# Altium footprint library PCBLIB.PcbLib: 1 footprints
Each footprint in its own frame and in the unit in brackets; x right, y up, seen from the top. Pads: shape width x height; smd on the part's side, far side on the other; paste and mask are expansions set on the pad; w line width, h text height; cw(c..) or ccw(c..) is an arc to the next point about the centre after c.
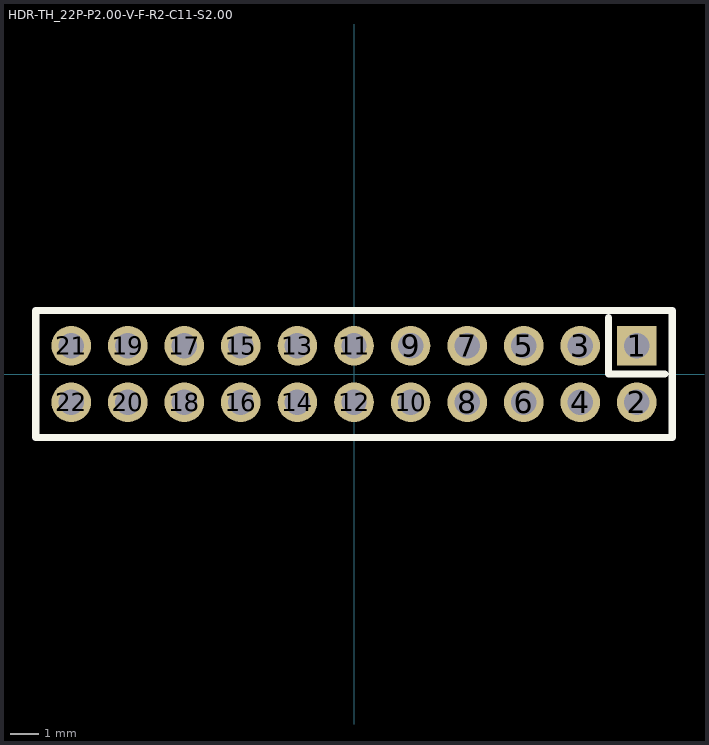
[diagram p0: the footprint, top view; thin cyan lines are the x and y axes]

## HDR-TH_22P-P2.00-V-F-R2-C11-S2.00 [mm]
pads (22):
  rect 1.4x1.4 hole 0.9: 1(10,1)
  round 1.4 hole 0.9: 2(10,-1) 3(8,1) 4(8,-1) 5(6,1) 6(6,-1) 7(4,1) 8(4,-1) 9(2,1) 10(2,-1) 11(0,1) 12(0,-1) 13(-2,1) 14(-2,-1) 15(-4,1) 16(-4,-1) 17(-6,1) 18(-6,-1) 19(-8,1) 20(-8,-1) 21(-10,1) 22(-10,-1)
Top Overlay:
  lines w0.254: 9,1.999 9,0 11,0 ; -11.25,-2.25 11.25,-2.25 11.25,2.25 -11.25,2.25 -11.25,-2.25